# Altium schematic symbol library CGRA_schlib.SchLib: 80 symbols (part 3 of 3)
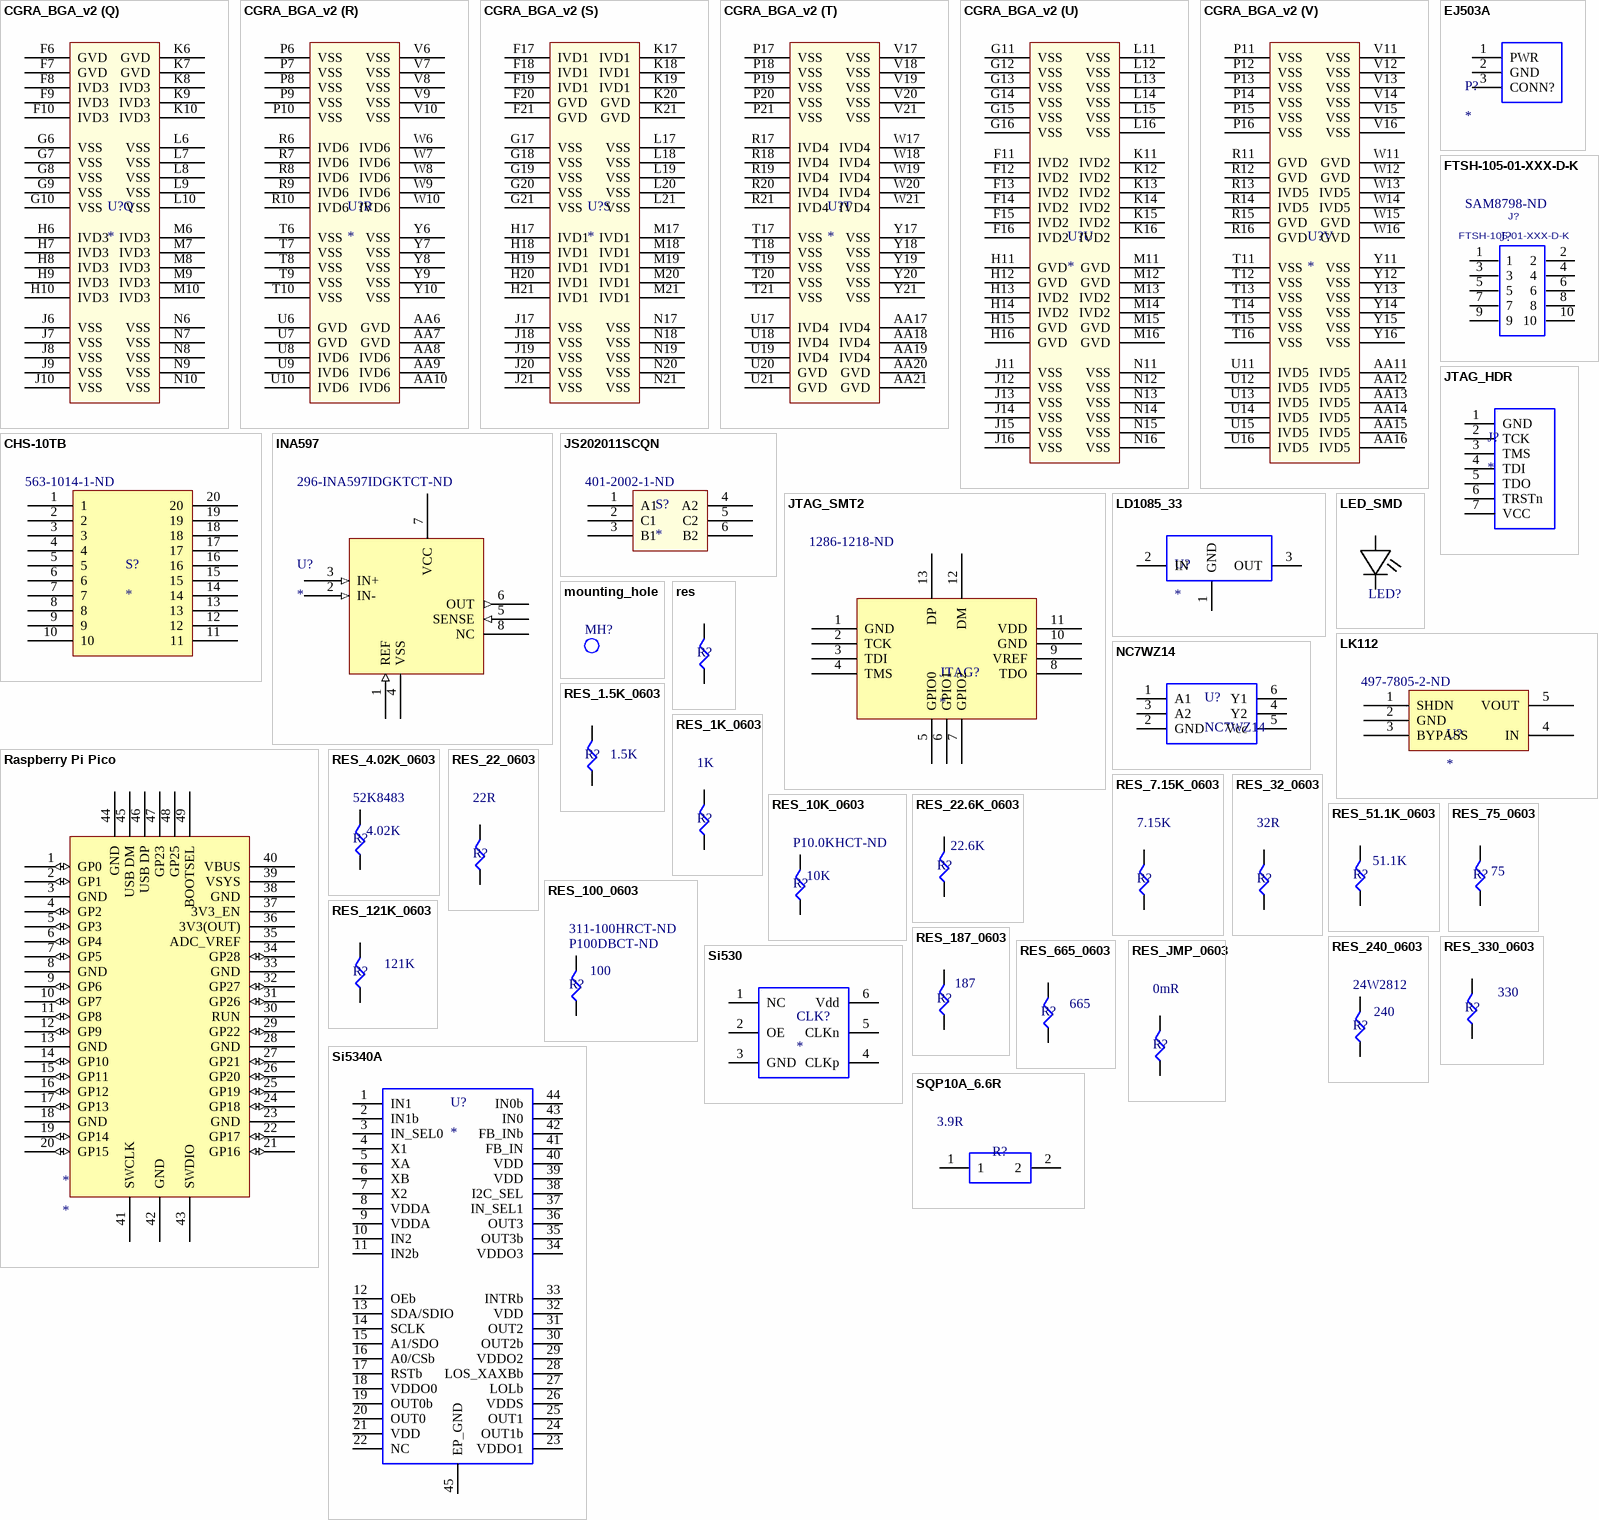
[diagram p5: symbols CGRA_BGA_v2 to SQP10A_6.6R]

## RES_665_0603
designator R?  Resistance: 665  (hidden comment: *)
RESISTOR, 665R, 0603, 0.1%, 0.1W; Manufacturer: Panasonic; Manufacturer Part Number: ERA3AEB6650V; Power Rating: 100mW; Voltage Rating: 75V; Temperature Coefficient: 25ppm/°C; ComponentLink1URL: https://www.rohm.com/datasheet/ESR01MZPF/esr-e; ComponentLink1Description: https://www.rohm.com/datasheet/ESR01MZPF/esr-e; Supplier 1: Digi-Key; Stock 1: 9157; Pricing 1: 1=0.35, 10=0.3, 100=0.1172, 1000=0.04906, 2500=0.04498 (USD); Mount: Surface Mount; Case/Package: 0603; Number of Pins: 2; Case Code (Imperial): 0603; Case Code (Metric): 1608; Contact Plating: Tin; Min Operating Temperature: -55°C; Max Operating Temperature: 155°C; Tolerance: 0.1%; Packaging: Tape and Reel; Package Quantity: 1; Composition: Metal Film,Thin Film; Number of Terminations: 2; Max Power Dissipation: 100mW; Voltage Rating (DC): 75V; Features: Automotive AEC-Q200; Military Standard: Not; Length: 1.6mm; Height: 0.45mm; Width: 0.8mm; Depth: 0.8mm; Radiation Hardening: No; Lead Free: Lead Free; ComponentLink2URL: http://www.farnell.com/datasheets/485442.pdf; ComponentLink2Description: http://www.farnell.com/datasheets/485442.pdf; ComponentLink3URL: http://industrial.panasonic.com/www-data/pdf/AOA0000/AOA0000CE26.pdf; ComponentLink3Description: http://industrial.panasonic.com/www-data/pdf/AOA0000/AOA0000CE26.pdf; ComponentLink4URL: http://uk.rs-online.com/webdocs/0eb1/0900766b80eb1d8c.pdf; ComponentLink4Description: http://uk.rs-online.com/webdocs/0eb1/0900766b80eb1d8c.pdf; Supplier Part Number 1: P665DBCT-ND
footprint RESC1608X06N (Chip Resistor, 2-Leads, Body 1.60x0.80mm, IPC Medium Density)
pins: 1, 2

## RES_JMP_0603
designator R?  Resistance: 0mR  (hidden comment: *)
Thick Film Resistors - SMD 0.0ohm 1%; Manufacturer: Yageo; Manufacturer Part Number: RC0603FR-070RL; Power Rating: 100mW; Voltage Rating: 50V; Temperature Coefficient: 200ppm/°C; Current Rating: 1A; Working Voltage: 75V; ComponentLink1URL: https://www.rohm.com/datasheet/ESR01MZPF/esr-e; ComponentLink1Description: https://www.rohm.com/datasheet/ESR01MZPF/esr-e; Supplier 1: Digi-Key; Stock 1: 6006406; Pricing 1: 1=0.1, 10=0.021, 25=0.0152, 50=0.0114, 100=0.0084, 250=0.00644, 500=0.00514, 1000=0.00379 (USD); Case/Package: 0603; Number of Pins: 2; Case Code (Metric): 1608; Case Code (Imperial): 0603; Contact Plating: Matte,Tin; Min Operating Temperature: -55°C; Max Operating Temperature: 155°C; Packaging: Tape and Reel; Package Quantity: 5000; Tolerance: 1%; Composition: Thick Film; Number of Terminations: 2; Termination: SMD/SMT; Military Standard: Not; Max Power Dissipation: 100mW; Voltage Rating (DC): 50V; Features: Moisture Resistant; Length: 1.6mm; Height: 0.45mm; Width: 0.031inch; Depth: 0.8mm; Radiation Hardening: No; REACH SVHC: No SVHC; Lead Free: Lead Free; ComponentLink2URL: http://www.farnell.com/datasheets/1868787.pdf; ComponentLink2Description: http://www.farnell.com/datasheets/1868787.pdf; ComponentLink3URL: http://www.farnell.com/datasheets/443971.pdf; ComponentLink3Description: http://www.farnell.com/datasheets/443971.pdf; ComponentLink4URL: http://www.yageo.com/documents/recent/PYu-RC_Group_51_RoHS_L_9.pdf; ComponentLink4Description: http://www.yageo.com/documents/recent/PYu-RC_Group_51_RoHS_L_9.pdf; ComponentLink5URL: http://documents.rs-components.com/techlib://itc_doclist_GB.htm?stockno=5048827; ComponentLink5Description: http://documents.rs-components.com/techlib://itc_doclist_GB.htm?stockno=5048827; Supplier Part Number 1: 311-0.0HRCT-ND
footprint RESC1608X06N (Chip Resistor, 2-Leads, Body 1.60x0.80mm, IPC Medium Density)
pins: 1, 2

## Si530
designator CLK?
SMD Crystal Oscillator 50MHz 2.5V 6-Pin SMD Tray; Manufacturer: Silicon Labs; Manufacturer Part Number: 530FC50M0000DG; Max Supply Current: 98mA; Frequency Stability: 7ppm; Supplier 1: Digi-Key; Stock 1: 457; Pricing 1: 1=11.26, 25=10.8472, 100=10.4299, 1000=8.68972 (USD); Mount: Surface Mount; Case/Package: SMD/SMT; Number of Pins: 6; Min Operating Temperature: -40°C; Max Operating Temperature: 85°C; Packaging: Tray; Frequency: 50MHz; Operating Supply Voltage: 2.5V; Length: 0.276inch; Height: 0.071inch; Width: 0.197inch; Radiation Hardening: No; Supplier Part Number 1: 530FC50M0000DG-ND
footprint XTAL_Si
pins: 1 NC, 2 OE, 3 GND, 4 CLKp, 5 CLKn, 6 Vdd

## Si5340A
designator U?
FACTORY PRE-PROGRAMMED:CLOCK GEN; Manufacturer: Silicon Labs; Manufacturer Part Number: SI5340A-B03919-GM; Supplier 1: Digi-Key; Stock 1: 260; Pricing 1: 1=13.78, 25=13.268, 100=12.7578 (USD); Supplier Part Number 1: 336-3699-ND
footprint QFN_44
pins: 1 IN1, 2 IN1b, 3 IN_SEL0, 4 X1, 5 XA, 6 XB, 7 X2, 8 VDDA, 9 VDDA, 10 IN2, 11 IN2b, 12 OEb, 13 SDA/SDIO, 14 SCLK, 15 A1/SDO, 16 A0/CSb, 17 RSTb, 18 VDDO0, 19 OUT0b, 20 OUT0, 21 VDD, 22 NC, 23 VDDO1, 24 OUT1b, 25 OUT1, 26 VDDS, 27 LOLb, 28 LOS_XAXBb, 29 VDDO2, 30 OUT2b, 31 OUT2, 32 VDD, 33 INTRb, 34 VDDO3, 35 OUT3b, 36 OUT3, 37 IN_SEL1, 38 I2C_SEL, 39 VDD, 40 VDD, 41 FB_IN, 42 FB_INb, 43 IN0, 44 IN0b, 45 EP_GND

## SQP10A_6.6R
designator R?  Resistance: 3.9R  (hidden comment: *)
RES 3.9 OHM 10W 5% AXIAL; Manufacturer: Yageo; Manufacturer Part Number: SQP10AJB-3R9; Voltage Rating (DC): 500V; ComponentLink1URL: http://www.yageo.com/documents/recent/Yageo%20LR_SQP%20NSP_2013.pdf; ComponentLink1Description: http://www.yageo.com/documents/recent/Yageo%20LR_SQP%20NSP_2013.pdf; ComponentLink2URL: http://www.yageo.com/NewPortal/yageodocoutput?fileName=/pdf/throughhole/Yageo_LR_SQP_NSP_2013.pdf; ComponentLink2Description: http://www.yageo.com/NewPortal/yageodocoutput?fileName=/pdf/throughhole/Yageo_LR_SQP_NSP_2013.pdf; Supplier 1: Digi-Key; Stock 1: 2708; Pricing 1: 1=0.81, 10=0.7, 25=0.6148, 50=0.5618, 100=0.4876, 250=0.424, 500=0.35192, 1000=0.2862, 5000=0.27306 (USD); Case/Package: Axial; Min Operating Temperature: -55°C; Max Operating Temperature: 155°C; Packaging: Bulk; Tolerance: 5%; Package Quantity: 500; Composition: Wirewound; Max Power Dissipation: 10W; Power Rating: 10W; Number of Terminations: 2; Features: Moisture Resistant; Termination: Axial; Military Standard: Not; Length: 1.89inch; Depth: 9.5mm; Lead Free: Lead Free; Supplier Part Number 1: 3.9W-10-ND
footprint SQP10A
pins: 1, 2

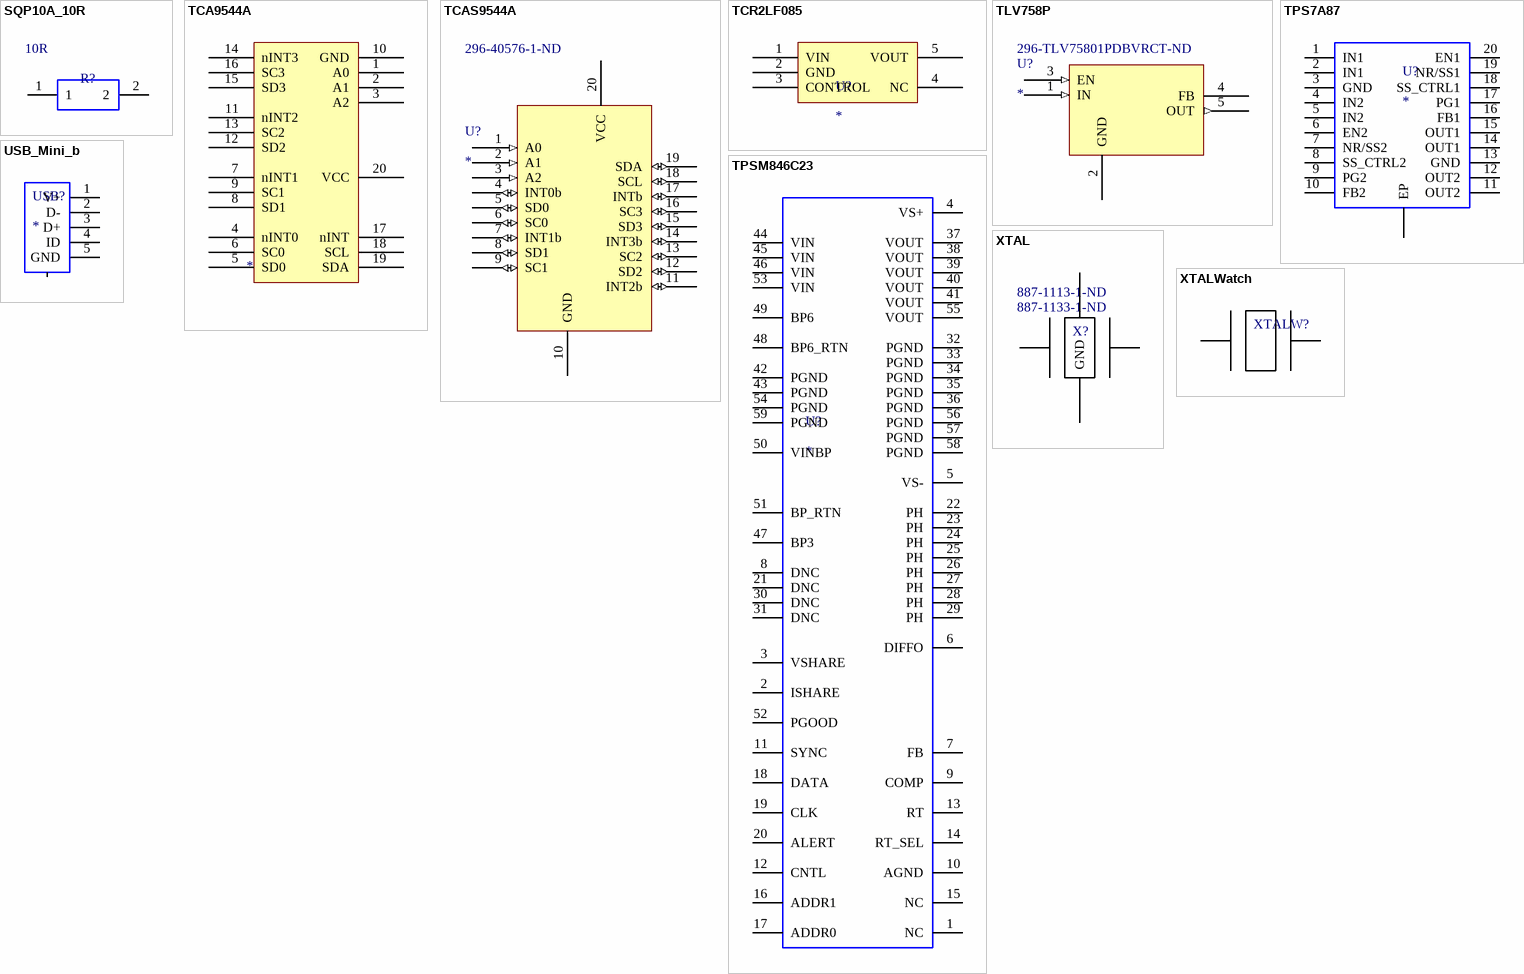
[diagram p3: symbols SQP10A_10R to XTALWatch]

## SQP10A_10R
designator R?  Resistance: 10R  (hidden comment: *)
RES 10 OHM 10W 5% AXIAL; Manufacturer: Yageo; Manufacturer Part Number: SQP10AJB-10R; Voltage Rating (DC): 500V; ComponentLink1URL: http://www.yageo.com/documents/recent/Yageo%20LR_SQP%20NSP_2013.pdf; ComponentLink1Description: http://www.yageo.com/documents/recent/Yageo%20LR_SQP%20NSP_2013.pdf; Supplier 1: Digi-Key; Stock 1: 25551; Pricing 1: 1=0.81, 10=0.7, 25=0.6148, 50=0.5618, 100=0.4876, 250=0.424, 500=0.35192, 1000=0.2862, 5000=0.27306 (USD); Case/Package: Axial; Min Operating Temperature: -55°C; Max Operating Temperature: 155°C; Package Quantity: 500; Tolerance: 5%; Packaging: Bulk; Composition: Wirewound; Number of Terminations: 2; Max Power Dissipation: 10W; Features: Moisture Resistant; Length: 1.89inch; Lead Free: Lead Free; ComponentLink2URL: http://www.yageo.com/NewPortal/yageodocoutput?fileName=/pdf/throughhole/Yageo_LR_SQP_NSP_2013.pdf; ComponentLink2Description: http://www.yageo.com/NewPortal/yageodocoutput?fileName=/pdf/throughhole/Yageo_LR_SQP_NSP_2013.pdf; Supplier Part Number 1: 10W-10-ND
footprint SQP10A
pins: 1, 2

## TCA9544A
designator *
Low Voltage 4-Channel I / 2C and SMBus Multiplexer With Interrupt Logic
footprint TSOP65P640X120-20N (TSOP, 20-Leads, Body 6.50x4.40mm, Pitch 0.65mm, IPC Medium Density)
pins: 1 A0, 2 A1, 3 A2, 4 nINT0, 5 SD0, 6 SC0, 7 nINT1, 8 SD1, 9 SC1, 10 GND, 11 nINT2, 12 SD2, 13 SC2, 14 nINT3, 15 SD3, 16 SC3, 17 nINT, 18 SCL, 19 SDA, 20 VCC

## TCAS9544A
designator U?  Supplier Part Number 1: 296-40576-1-ND
Supplier 1: Digi-Key
footprint TSOP65P650X120-20N (TSOP, 20-Leads, Body 6.50x4.40mm, Pitch 0.65mm, IPC Medium Density)
pins: 1 A0 (in), 2 A1 (in), 3 A2 (in), 4 INT0b (io), 5 SD0 (io), 6 SC0 (io), 7 INT1b (io), 8 SD1 (io), 9 SC1 (io), 10 GND (power), 11 INT2b (io), 12 SD2 (io), 13 SC2 (io), 14 INT3b (io), 15 SD3 (io), 16 SC3 (io), 17 INTb (io), 18 SCL (io), 19 SDA (io), 20 VCC (power)

## TCR2LF085
designator U?
0.85V regulator; ComponentLink1Description: TCR2LF085; ComponentLink1URL: https://www.digikey.com/en/products/detail/toshiba-semiconductor-and-storage/TCR2LF085-LM-CT/10379974
footprint SOT95P280X110-5N (SOT23, 5-Leads, Body 2.90x2.80mm, Pitch 0.95mm, IPC Medium Density)
pins: 1 VIN, 2 GND, 3 CONTROL, 4 NC, 5 VOUT

## TLV758P
designator U?  Supplier Part Number 1: 296-TLV75801PDBVRCT-ND
Supplier 1: Digi-Key
footprint SOT95P280X110-5N (SOT23, 5-Leads, Body 2.90x2.80mm, Pitch 0.95mm, IPC Medium Density)
pins: 1 IN (in), 2 GND (power), 3 EN (in), 4 FB, 5 OUT (out)

## TPS7A87
designator U?
Manufacturer: Texas Instruments; Manufacturer Part Number: TPS7A8701RTJR; Quiescent Current: 2.1mA; Dropout Voltage: 75mV; Supplier 1: Digi-Key; Stock 1: 7609; Pricing 1: 1=2.41, 10=2.162, 100=1.7376, 500=1.42758, 1000=1.18285 (USD); Min Operating Temperature: -40°C; Max Operating Temperature: 125°C; Lead Free: Lead Free; Supplier Part Number 1: 296-47302-1-ND
footprint WQFN
pins: 1 IN1, 2 IN1, 3 GND, 4 IN2, 5 IN2, 6 EN2, 7 NR/SS2, 8 SS_CTRL2, 9 PG2, 10 FB2, 11 OUT2, 12 OUT2, 13 GND, 14 OUT1, 15 OUT1, 16 FB1, 17 PG1, 18 SS_CTRL1, 19 NR/SS1, 20 EN1, EP

## TPSM846C23
designator U?
Non-Isolated PoL Module DC DC Converter 1 Output 0.35 ~ 2V 35A 4.5V - 15V Input; Manufacturer: Texas Instruments; Manufacturer Part Number: TPSM846C23MOLR; Supplier 1: Digi-Key; Stock 1: 323; Pricing 1: 1=24.49, 10=22.587, 100=19.2882 (USD); Min Operating Temperature: -40°C; Max Operating Temperature: 105°C; Supplier Part Number 1: 296-48350-1-ND
footprint QFM-59
pins: 1 NC, 2 ISHARE, 3 VSHARE, 4 VS+, 5 VS-, 6 DIFFO, 7 FB, 8 DNC, 9 COMP, 10 AGND, 11 SYNC, 12 CNTL, 13 RT, 14 RT_SEL, 15 NC, 16 ADDR1, 17 ADDR0, 18 DATA, 19 CLK, 20 ALERT, 21 DNC, 22 PH, 23 PH, 24 PH, 25 PH, 26 PH, 27 PH, 28 PH, 29 PH, 30 DNC, 31 DNC, 32 PGND, 33 PGND, 34 PGND, 35 PGND, 36 PGND, 37 VOUT, 38 VOUT, 39 VOUT, 40 VOUT, 41 VOUT, 42 PGND, 43 PGND, 44 VIN, 45 VIN, 46 VIN, 47 BP3, 48 BP6_RTN, 49 BP6, 50 VINBP, 51 BP_RTN, 52 PGOOD, 53 VIN, 54 PGND, 55 VOUT, 56 PGND, 57 PGND, 58 PGND, 59 PGND

## USB_Mini_b
designator USB?
USB - mini B  Receptacle Connector 5 Position Surface Mount, Right Angle, Horizontal; Manufacturer: EDAC; Manufacturer Part Number: 690-005-299-043; Number of Contacts: 5; Number of Ports: 1; Pitch: 0.8mm; Supplier 1: Digi-Key; Stock 1: 81640; Pricing 1: 1=0.54, 10=0.51, 25=0.4592, 50=0.408, 100=0.391, 250=0.357, 500=0.34 (USD); Mount: Horizontal,Surface Mount; Contact Plating: Gold; Colour: Black; Contact Material: Bronze; Number of Terminals: 5; Housing Material: Thermoplastic; Package Quantity: 750; Packaging: Tape and Reel; Termination: Solder; Connector Type: USB; Gender: Receptacle; Orientation: Right Angle; Lead Free: Lead Free; Supplier Part Number 1: 151-1206-1-ND
footprint usb_hdr
pins: 1 V+, 2 D-, 3 D+, 4 ID, 5 GND, MP

## XTAL
designator X?  Supplier Part Number 1: 887-1133-1-ND  Supplier Part Number 2: 887-1113-1-ND  (hidden comment: *)
Crystal; Manufacturer: Abracon; Manufacturer Part Number: ABS07-120-32.768KHZ-T; Tolerance: 20ppm; Frequency: 32.768kHz; Load Capacitance: 6pF; ESR (Equivalent Series Resistance): 55kR; Series Resistance: 60kR; ComponentLink1URL: https://www.verical.com/server-webapp/html/getDatasheet?partID=722402; ComponentLink1Description: https://www.verical.com/server-webapp/html/getDatasheet?partID=722402; ComponentLink2URL: https://abracon.com/Support/PackageDrawing/Resonators/ABS07-120.PDF; ComponentLink2Description: https://abracon.com/Support/PackageDrawing/Resonators/ABS07-120.PDF; ComponentLink3URL: http://www.mouser.com/ds/2/3/ABS07-120-32.768kHz-T-218607.pdf; ComponentLink3Description: http://www.mouser.com/ds/2/3/ABS07-120-32.768kHz-T-218607.pdf; Stock 1: 222072; Pricing 1: 1=0.57, 10=0.473, 50=0.4258, 100=0.3784, 500=0.35948, 1000=0.30272 (USD); Mount: Surface Mount; Case/Package: SMD/SMT; Number of Pins: 2; Min Operating Temperature: -40°C; Max Operating Temperature: 85°C; Frequency Tolerance: 20ppm; Packaging: Tape and Reel; Package Quantity: 3000; Termination: SMD/SMT; Length: 3.2mm; Height: 0.035inch; Width: 0.061inch; Depth: 1.5mm; Radiation Hardening: No; REACH SVHC: No SVHC; Lead Free: Lead Free; Supplier 1: Digi-Key; Supplier 2: Digi-Key
footprint 7M-26.000MAAJ-T footprint
pins: 1 XO, 2 3, 3 XI, 4 GND

## XTALWatch
designator XTALW?  (value not drawn)
Manufacturer: Abracon; Manufacturer Part Number: ABS07-120-32.768KHZ-T; Tolerance: 20ppm; Frequency: 32.768kHz; Load Capacitance: 6pF; ESR (Equivalent Series Resistance): 55kR; Series Resistance: 60kR; ComponentLink1URL: https://www.verical.com/server-webapp/html/getDatasheet?partID=722402; ComponentLink1Description: https://www.verical.com/server-webapp/html/getDatasheet?partID=722402; ComponentLink2URL: https://abracon.com/Support/PackageDrawing/Resonators/ABS07-120.PDF; ComponentLink2Description: https://abracon.com/Support/PackageDrawing/Resonators/ABS07-120.PDF; ComponentLink3URL: http://www.mouser.com/ds/2/3/ABS07-120-32.768kHz-T-218607.pdf; ComponentLink3Description: http://www.mouser.com/ds/2/3/ABS07-120-32.768kHz-T-218607.pdf; Supplier 1: Digi-Key; Stock 1: 222072; Pricing 1: 1=0.57, 10=0.473, 50=0.4258, 100=0.3784, 500=0.35948, 1000=0.30272 (USD); Mount: Surface Mount; Case/Package: SMD/SMT; Number of Pins: 2; Min Operating Temperature: -40°C; Max Operating Temperature: 85°C; Frequency Tolerance: 20ppm; Packaging: Tape and Reel; Package Quantity: 3000; Termination: SMD/SMT; Length: 3.2mm; Height: 0.035inch; Width: 0.061inch; Depth: 1.5mm; Radiation Hardening: No; REACH SVHC: No SVHC; Lead Free: Lead Free; Supplier Part Number 1: 535-11937-1-ND
footprint watch_crystal_smd
pins: 1 XO, 2 XI